# Altium footprint library MOD-TM1637.PcbLib: 1 footprints
Each footprint in its own frame and in the unit in brackets; x right, y up, seen from the top. Pads: shape width x height; smd on the part's side, far side on the other; paste and mask are expansions set on the pad; w line width, h text height; cw(c..) or ccw(c..) is an arc to the next point about the centre after c.
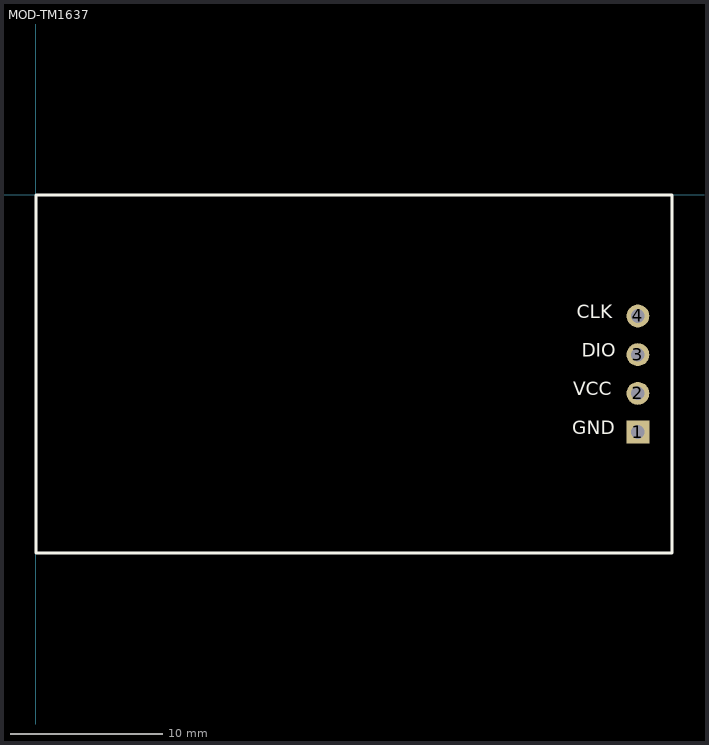
[diagram p0: the footprint, top view; thin cyan lines are the x and y axes]

## MOD-TM1637 [mm]
pads (4):
  rect 1.5x1.5 hole 0.9: 1(39.5,-15.56)
  round 1.5 hole 0.9: 2(39.5,-13.02) 3(39.5,-10.48) 4(39.5,-7.94)
Top Overlay:
  lines w0.2: 0,-23.5 0,0 41.75,0 41.75,-23.5 0,-23.5
  text "CLK" at 35.498,-8.383 h1.5
  text "DIO" at 35.817,-10.917 h1.5
  text "VCC" at 35.265,-13.45 h1.5
  text "GND" at 35.2,-15.983 h1.5
3D body "TM1637_indicator__.x_t": height 10.5, standoff -2.93, extent -0.55,-23.73 41.75,0.27